# Altium footprint library PIXHAWK.PcbLib: 55 footprints (part 1 of 4)
Each footprint in its own frame and in the unit in brackets; x right, y up, seen from the top. Pads: shape width x height; smd on the part's side, far side on the other; paste and mask are expansions set on the pad; w line width, h text height; cw(c..) or ccw(c..) is an arc to the next point about the centre after c.
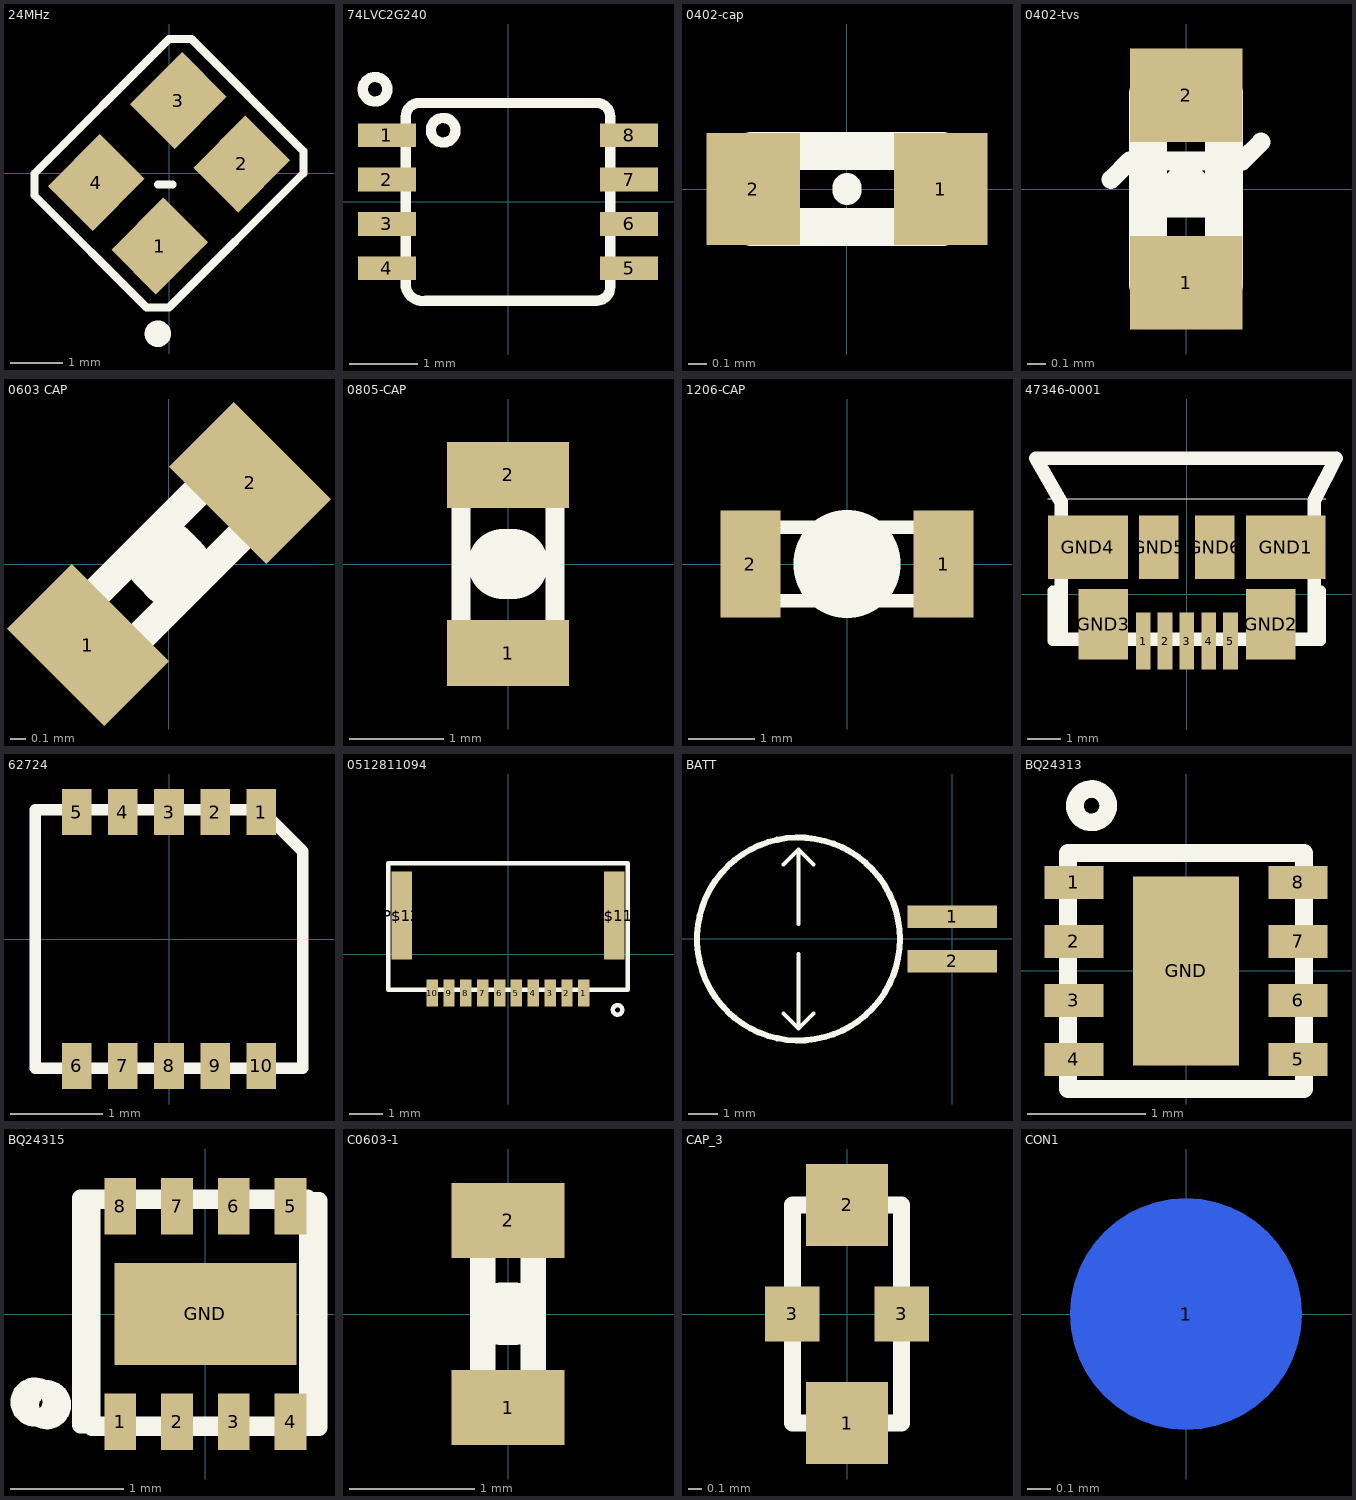
[diagram p0: the footprints below, top view; thin cyan lines are the x and y axes]

## 24MHz [mm]
pads (4):
  rect 1.4x1.2 smd rot 45: 1(-0.177,-1.379) 2(1.379,0.177) 3(0.177,1.379) 4(-1.379,-0.177)
Top Overlay:
  circle w0.3: c-0.212,-3.041 r0.1
  lines w0.15: -0.212,-0.212 0.071,-0.212 ; -2.546,-0.424 -0.424,-2.546 0,-2.546 2.546,0 2.546,0.424 0.424,2.546 0,2.546 -2.546,0 -2.546,-0.424

## 74LVC2G240 [mm]
pads (8):
  rect 0.85x0.35 smd: 1(-1.775,0.975) 2(-1.775,0.325) 3(-1.775,-0.325) 4(-1.775,-0.975) 5(1.775,-0.975) 6(1.775,-0.325) 7(1.775,0.325) 8(1.775,0.975)
Top Overlay:
  circle w0.15: c-0.95,1.05 r0.18
  circle w0.15: c-1.95,1.65 r0.18
  lines w0.15: -1,-1.45 1,-1.45 ; -1,1.45 1,1.45 ; -1.5,-1.25 ccw(c-1.25,-1.2) -1.2,-1.45 1.3,-1.45 ccw(c1.3,-1.25) 1.5,-1.25 1.5,1.25 ccw(c1.3,1.25) 1.3,1.45 -1.3,1.45 ccw(c-1.3,1.25) -1.5,1.25 -1.5,-1.25

## 0402-cap [mm]
pads (2):
  rect 0.5x0.6 smd: 1(0.5,0) 2(-0.5,0)
Top Overlay:
  lines w0.152: 0,-0.01 0,0.01
  lines w0.203: -0.508,-0.203 0.508,-0.203 ; -0.508,0.203 0.508,0.203

## 0402-tvs [mm]
pads (2):
  rect 0.6x0.5 smd: 1(0,-0.5) 2(0,0.5)
Top Overlay:
  lines w0.1: -0.4,0.05 -0.3,0.15 0.3,0.15 0.4,0.25
  lines w0.152: 0,-0.076 0,0.076 ; 0,-0.076 0.152,-0.076 0,0.076 ; 0,-0.076 -0.152,-0.076 0,0.076
  lines w0.203: -0.203,-0.508 -0.203,0.508 ; 0.203,-0.508 0.203,0.508

## 0603 CAP [mm]
pads (2):
  rect 0.6x0.9 smd rot 45: 1(-0.53,-0.53) 2(0.53,0.53)
Top Overlay:
  lines w0.203: -0.503,-0.216 0.216,0.503 ; -0.216,-0.503 0.503,0.215
  lines w0.5: -0.036,0.036 0.036,-0.036

## 0805-CAP [mm]
pads (2):
  rect 1.3x0.7 smd: 1(0,-0.95) 2(0,0.95)
Top Overlay:
  lines w0.203: -0.5,-0.6 -0.5,0.6 ; 0.5,-0.6 0.5,0.6
  lines w0.75: -0.051,0 0.051,0

## 1206-CAP [mm]
pads (2):
  rect 0.9x1.6 smd: 1(1.45,0) 2(-1.45,0)
Top Overlay:
  lines w0.203: -1.15,-0.548 1.15,-0.548 ; -1.15,0.548 1.15,0.548
  lines w1.6: 0,-0.01 0,0.01

## 47346-0001 [mm]
pads (11):
  rect 0.44x1.7 smd: 1(-1.3,-1.4) 2(-0.65,-1.4) 3(0,-1.4) 4(0.65,-1.4) 5(1.3,-1.4)
  rect 2.375x1.9 smd: GND1(2.95,1.4) GND4(-2.95,1.4)
  rect 1.475x2.1 smd: GND2(2.5,-0.9) GND3(-2.5,-0.9)
  rect 1.175x1.9 smd: GND5(-0.837,1.4) GND6(0.837,1.4)
Top Overlay:
  lines w0.008: -4.15,2.85 4.15,2.85
  lines w0.305: -4,0.1 -4,-1.4 -3.5,-1.4 ; 3.5,-1.4 4,-1.4 4,0.1
  lines w0.406: -4.5,4.05 -3.75,2.75 -3.75,-1.35 3.8,-1.35 3.8,2.8 4.45,4.05 -4.5,4.05

## 62724 [mm]
pads (10):
  rect 0.32x0.5 smd: 1(1,1.375) 2(0.5,1.375) 3(0,1.375) 4(-0.5,1.375) 5(-1,1.375) 6(-1,-1.375) 7(-0.5,-1.375) 8(0,-1.375) 9(0.5,-1.375) 10(1,-1.375)
Top Overlay:
  lines w0.127: -1.45,-1.4 -1.45,1.4 1,1.4 1.45,0.95 1.45,-1.4 -1.45,-1.4

## 0512811094 [mm]
pads (12):
  rect 0.34x0.8 smd: 1(2.25,-1.15) 2(1.75,-1.15) 3(1.25,-1.15) 4(0.75,-1.15) 5(0.25,-1.15) 6(-0.25,-1.15) 7(-0.75,-1.15) 8(-1.25,-1.15) 9(-1.75,-1.15) 10(-2.25,-1.15)
  rect 0.6x2.6 smd: P$11(3.15,1.15) P$12(-3.15,1.15)
Top Overlay:
  circle w0.127: c3.25,-1.65 r0.141
  lines w0.127: -3.55,2.65 -3.55,-1.05 3.55,-1.05 3.55,2.65 ; -3.55,2.7 3.55,2.7

## BATT [mm]
pads (2):
  rect 3x0.75 smd: 1(0,0.75) 2(0,-0.75)
Top Overlay:
  circle w0.203: c-5.15,0 r3.4
  lines w0.127: -5.65,-2.5 -5.15,-3 ; -5.65,2.5 -5.15,3 ; -5.15,-0.5 -5.15,-3 ; -5.15,0.5 -5.15,3 ; -4.65,-2.5 -5.15,-3 ; -4.65,2.5 -5.15,3

## BQ24313 [mm]
pads (9):
  rect 0.5x0.28 smd: 1(-0.95,0.75) 2(-0.95,0.25) 3(-0.95,-0.25) 4(-0.95,-0.75) 5(0.95,-0.75) 6(0.95,-0.25) 7(0.95,0.25) 8(0.95,0.75)
  rect 0.9x1.6 smd: GND(0,0)
Top Overlay:
  circle w0.15: c-0.8,1.4 r0.141
  lines w0.15: -1,-1 1,-1 1,1 -1,1 -1,-1

## BQ24315 [mm]
pads (9):
  rect 0.28x0.5 smd: 1(-0.75,-0.95) 2(-0.25,-0.95) 3(0.25,-0.95) 4(0.75,-0.95) 5(0.75,0.95) 6(0.25,0.95) 7(-0.25,0.95) 8(-0.75,0.95)
  rect 1.6x0.9 smd: GND(0,0)
Top Overlay:
  circle w0.15: c-1.4,-0.8 r0.141
  circle w0.15: c-1.502,-0.776 r0.141
  lines w0.15: -1.102,-0.976 -1.102,1.024 0.898,1.024 0.898,-0.976 -1.102,-0.976 ; -1,-1 -1,1 1,1 1,-1 -1,-1

## C0603-1 [mm]
pads (2):
  rect 0.9x0.6 smd: 1(0,-0.75) 2(0,0.75)
Top Overlay:
  lines w0.203: -0.203,-0.508 -0.203,0.508 ; 0.203,-0.508 0.203,0.508
  lines w0.5: -0.051,0 0.051,0

## CAP_3 [mm]
pads (4):
  rect 0.6x0.6 smd: 1(0,-0.8) 2(0,0.8)
  rect 0.4x0.4 smd: 3(-0.4,0) 3(0.4,0)
Top Overlay:
  lines w0.127: -0.4,-0.8 0.4,-0.8 0.4,0.8 -0.4,0.8 -0.4,-0.8

## CON1 [mm]
pads (1):
  round 1 smd far side: 1(0,0)
Bottom Overlay:
  circle w0.1: c0,0 r0.649